# Altium schematic symbol library GRM219C80J475KE19D.SchLib: 1 symbol
Pins are listed as number, name and electrical type; pins without a type are passive.

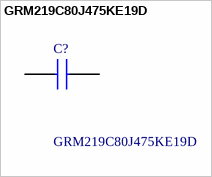
[diagram p0: symbol GRM219C80J475KE19D]

## GRM219C80J475KE19D
designator C?
Murata 0805 GRM 4.7uF Ceramic Multilayer Capacitor, 6.3 V dc, +105C, X6S Dielectric, +/-10% SMD; Manufacturer_Name: Murata Electronics; Geometry.Height: 0.95mm; Mouser Part Number: 81-GRM219C80J475KE9D; Mouser Price/Stock: https://www.mouser.co.uk/ProductDetail/Murata-Electronics/GRM219C80J475KE19D?qs=1H9tZOlVdUAU5TSvoHHPuA%3D%3D; Manufacturer_Part_Number: GRM219C80J475KE19D; Datasheet Link: http://www.murata.com/~/media/webrenewal/support/library/catalog/products/capacitor/mlcc/c02e.pdf
footprint CAPC2012X95N
pins: 1, 2